# EAGLE library part 2311765-1 (library 000_VansAircraft)
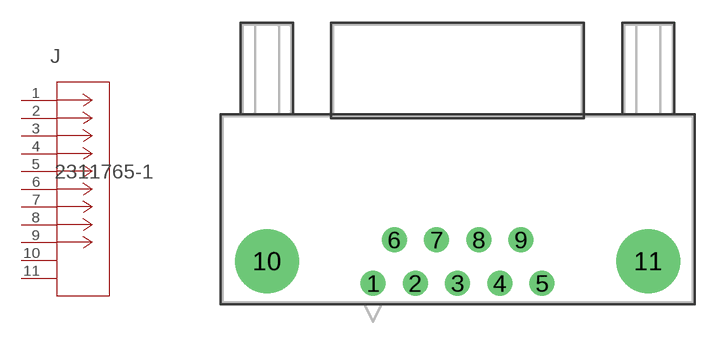
[diagram p10: symbol with the pads of CONN9_2311765_TEC; footprint CONN9_2311765_TEC]

Designator prefix J

## 2311765-1 (COPYRIGHT: Copyright (C) 2025 Ultra Librarian. All rights reserved.; DESCRIPTION: AMPL REC, HD20, R/A, 9P, S/L, .318; MANUFACTURER_NAME: TE Connectivity; MANUFACTURER_PART_NUMBER: 2311765-1)  [CONN9_2311765_TEC]
1  1  pas
2  2  pas
3  3  pas
4  4  pas
5  5  pas
6  6  pas
7  7  pas
8  8  pas
9  9  pas
10  10  pas
11  11  pas

## Footprint CONN9_2311765_TEC (pad centres in mm)
drill 1.092 pad 1.6: 1 -5.715,-1.27; 2 -2.946,-1.27; 3 -0.178,-1.27; 4 2.591,-1.27; 5 5.359,-1.27; 6 -4.318,1.575; 7 -1.549,1.575; 8 1.219,1.575; 9 3.988,1.575
drill 3.175 pad 3.683: 10 -12.675,0.152; 11 12.319,0.152